# Altium footprint library UCC28180-V04.PcbLib: 54 footprints (part 3 of 4)
Each footprint in its own frame and in the unit in brackets; x right, y up, seen from the top. Pads: shape width x height; smd on the part's side, far side on the other; paste and mask are expansions set on the pad; w line width, h text height; cw(c..) or ccw(c..) is an arc to the next point about the centre after c.
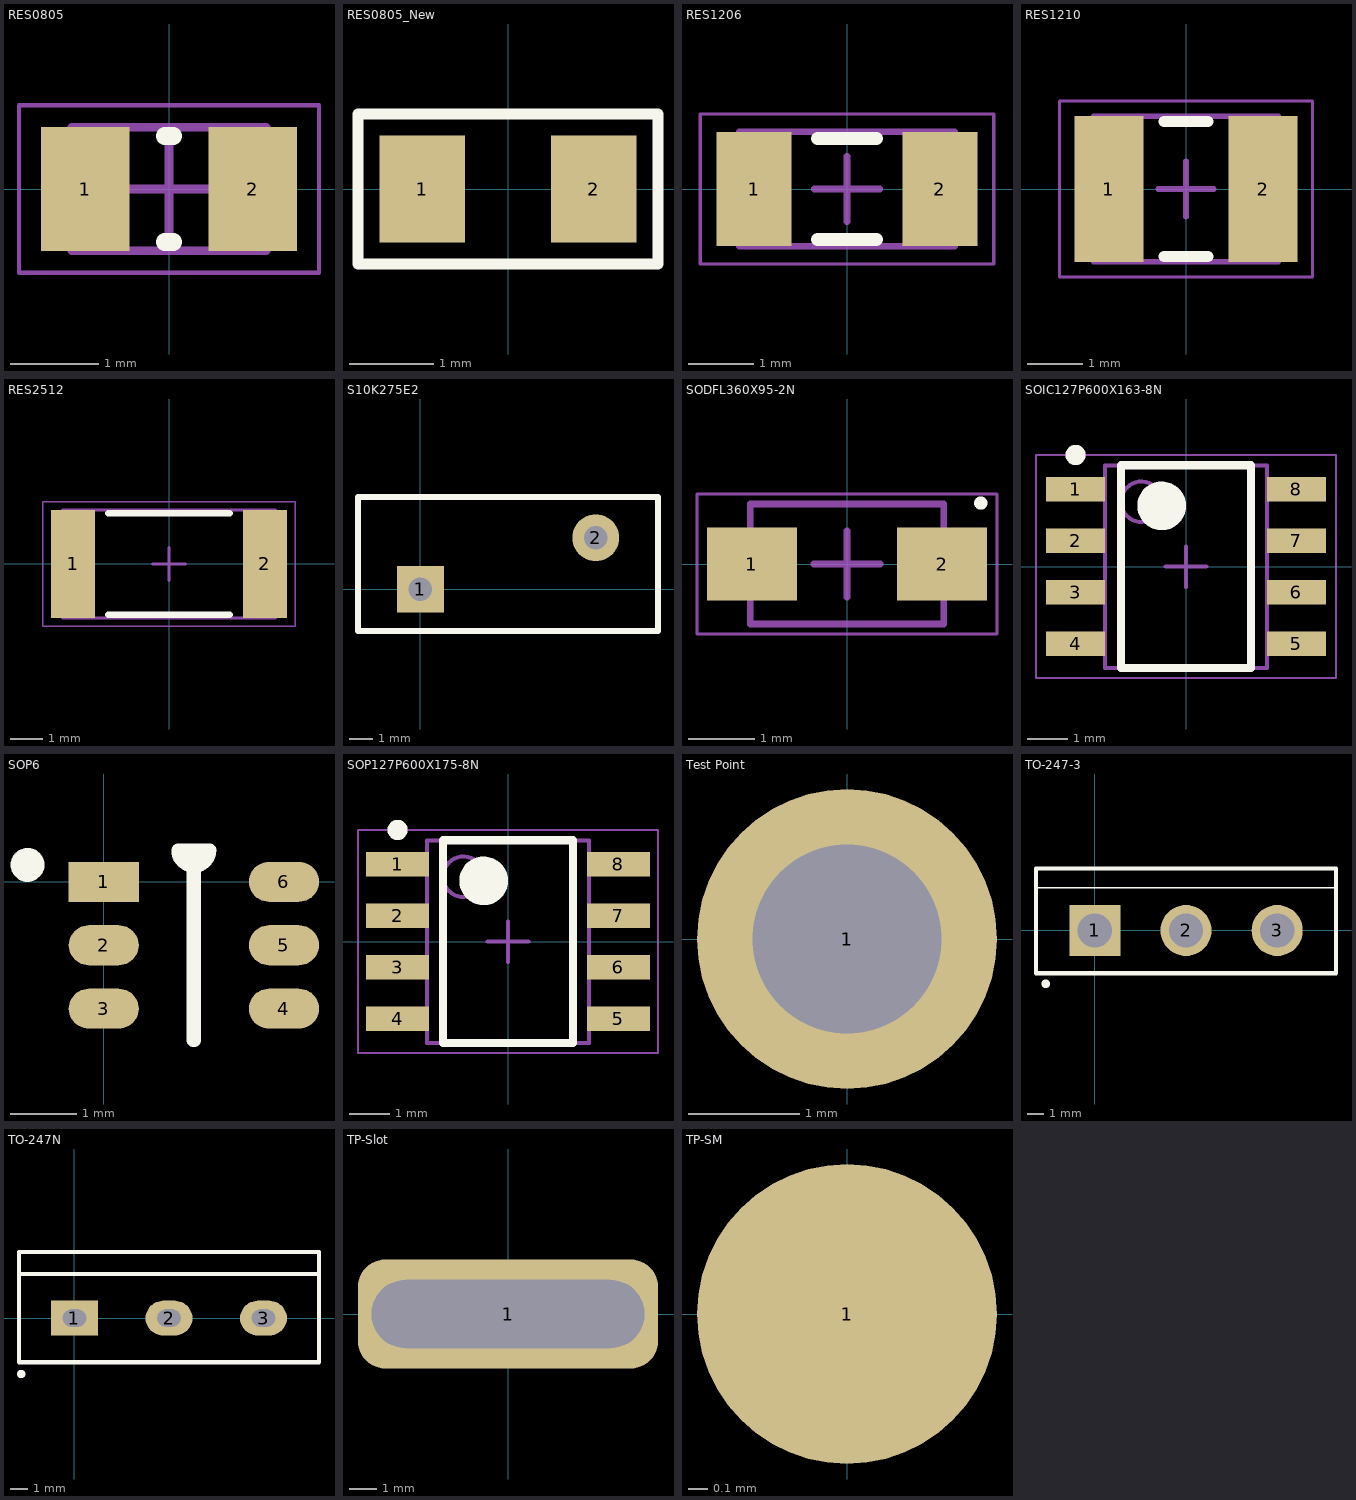
[diagram p2: the footprints below, top view; thin cyan lines are the x and y axes]

## RES0805 [mm]
height 0.5
pads (2):
  rect 1x1.4 smd: 1(-0.95,0) 2(0.95,0)
Top Overlay:
  lines w0.2: -0.05,-0.6 0.05,-0.6 ; -0.05,0.6 0.05,0.6
Mechanical 13:
  lines w0.1: -1.1,-0.7 1.1,-0.7 1.1,0.7 -1.1,0.7 -1.1,-0.7
Mechanical 15:
  lines w0.05: -1.7,-0.95 1.7,-0.95 1.7,0.95 -1.7,0.95 -1.7,-0.95
  lines w0.1: -0.5,0 0.5,0 ; 0,-0.5 0,0.5
3D body: height 0.5, standoff 0, extent 0.75,-0.7 1.1,0.7
3D body: height 0.5, standoff 0, extent -1.1,-0.7 -0.75,0.7
3D body: height 0.5, standoff 0, extent -0.75,-0.7 0.75,0.7

## RES0805_New [mil] "SMD_Resistor"
pads (2):
  rect 40x50 smd: 1(-40,0) 2(40,0)
Top Overlay:
  lines w5: -70,-35 70,-35 70,35 -70,35 -70,-35
3D body: height 27, standoff 26, extent 15,-15.5 22.5,-0.5
3D body: height 27, standoff 26, extent 5,-15.5 12.5,-0.5
3D body: height 27, standoff 26, extent -25,-15.5 -17.5,-0.5
3D body: height 27, standoff 26, extent -5,-15.5 2.5,-0.5
3D body: height 27, standoff 26, extent -0.5,2 7,17
3D body: height 27, standoff 26, extent -10.5,2 -3,17
3D body: height 27, standoff 26, extent -20.5,2 -13,17
3D body: height 27, standoff 26, extent -30.5,2 -23,17
3D body: height 27, standoff 26, extent -15,-15.5 -7.5,-0.5
3D body: height 26, standoff 0, extent 24,-25 40,25
3D body: height 26, standoff 25, extent -25,-22 24,22
3D body: height 26, standoff 0, extent -41,-25 -25,25
3D body: height 25, standoff 0, extent -40,-24 39,24
3D body: height 27, standoff 26, extent 9.5,2 17,17
3D body: height 27, standoff 26, extent 19.5,2 27,17

## RES1206 [mm]
height 0.5
pads (2):
  rect 1.15x1.75 smd: 1(-1.425,0) 2(1.425,0)
Top Overlay:
  lines w0.2: -0.45,-0.775 0.45,-0.775 ; -0.45,0.775 0.45,0.775
Mechanical 13:
  lines w0.1: -1.65,-0.875 -1.65,0.875 1.65,0.875 1.65,-0.875 -1.65,-0.875
Mechanical 15:
  lines w0.05: -2.25,-1.15 -2.25,1.15 2.25,1.15 2.25,-1.15 -2.25,-1.15
  lines w0.1: -0.5,0 0.5,0 ; 0,-0.5 0,0.5
3D body: height 0.5, standoff 0, extent -1.2,-0.875 1.2,0.875
3D body: height 0.5, standoff 0, extent -1.65,-0.875 -1.2,0.875
3D body: height 0.5, standoff 0, extent 1.2,-0.875 1.65,0.875

## RES1210 [mm] "Chip Resistor"
height 2
pads (2):
  rect 1.25x2.65 smd: 1(-1.4,0) 2(1.4,0)
Top Overlay:
  lines w0.2: -0.4,-1.225 0.4,-1.225 ; -0.4,1.225 0.4,1.225
Mechanical 13:
  lines w0.1: -1.675,-1.32 -1.675,1.32 1.675,1.32 1.675,-1.32 -1.675,-1.32
Mechanical 15:
  lines w0.05: -2.3,-1.6 -2.3,1.6 2.3,1.6 2.3,-1.6 -2.3,-1.6
  lines w0.1: -0.5,0 0.5,0 ; 0,-0.5 0,0.5
3D body: height 2, standoff 0, extent -1.175,-1.32 1.175,1.32
3D body: height 2, standoff 0, extent -1.675,-1.32 -1.175,1.32
3D body: height 2, standoff 0, extent 1.175,-1.32 1.675,1.32

## RES2512 [mm]
height 0.7
pads (2):
  rect 1.35x3.3 smd: 1(-2.925,0) 2(2.925,0)
Top Overlay:
  lines w0.2: -1.85,-1.55 1.85,-1.55 ; -1.85,1.55 1.85,1.55
Mechanical 13:
  lines w0.1: -3.25,-1.65 3.25,-1.65 3.25,1.65 -3.25,1.65 -3.25,-1.65
Mechanical 15:
  lines w0.05: -3.85,-1.9 3.85,-1.9 3.85,1.9 -3.85,1.9 -3.85,-1.9
  lines w0.1: -0.5,0 0.5,0 ; 0,-0.5 0,0.5
3D body: height 0.7, standoff 0, extent 2.65,-1.65 3.25,1.65
3D body: height 0.7, standoff 0, extent -3.25,-1.65 -2.65,1.65
3D body: height 0.7, standoff 0, extent -2.65,-1.65 2.65,1.65

## S10K275E2 [mm] "Varistor"
pads (2):
  rect 2x2 hole 1: 1(0,0)
  round 2 hole 1: 2(7.5,2.2)
Top Overlay:
  lines w0.254: -2.667,-1.778 10.16,-1.778 10.16,3.937 -2.667,3.937 -2.667,-1.778

## SOD-123FL [mm] "Schottky Diode"

## SODFL360X95-2N [mm] "SODFL, 2-Leads, Body 1.65x3.60mm, IPC Medium Density"
height 0.95
pads (2):
  rect 1.35x1.1 smd: 1(-1.425,0) 2(1.425,0)
Top Overlay:
  lines w0.1: 2.057,0.914 cw(c2.007,0.914) 2.057,0.915
Mechanical 13:
  lines w0.1: -1.45,-0.9 -1.45,0.9 1.45,0.9 1.45,-0.9 -1.45,-0.9
Mechanical 15:
  lines w0.05: -2.25,-1.05 -2.25,1.05 2.25,1.05 2.25,-1.05 -2.25,-1.05
  lines w0.1: -0.5,0 0.5,0 ; 0,-0.5 0,0.5
3D body: height 0.95, standoff 0, extent -1.45,-0.9 1.45,0.9

## SOIC127P600X163-8N [mm] "SOIC, 8-Leads, Body 4.90x3.90mm, Pitch 1.27mm, IPC Medium Density"
height 1.63
pads (8):
  rect 1.45x0.6 smd: 1(-2.725,1.905) 2(-2.725,0.635) 3(-2.725,-0.635) 4(-2.725,-1.905) 5(2.725,-1.905) 6(2.725,-0.635) 7(2.725,0.635) 8(2.725,1.905)
Top Overlay:
  circle w0.25: c-2.725,2.755 r0.125
  circle w0.6: c-0.6,1.5 r0.3
  lines w0.2: -1.6,-2.5 -1.6,2.5 1.6,2.5 1.6,-2.5 -1.6,-2.5
Mechanical 13:
  circle w0.1: c-1.1,1.6 r0.5
  lines w0.1: -2,-2.5 -2,2.5 2,2.5 2,-2.5 -2,-2.5
Mechanical 15:
  lines w0.05: -3.7,-2.75 -3.7,2.75 3.7,2.75 3.7,-2.75 -3.7,-2.75
  lines w0.1: -0.5,0 0.5,0 ; 0,-0.5 0,0.5
3D body "SOIC127P600X163-8N.step": height 1.63, standoff 0, extent -2.997,-2.5 2.997,2.5

## SOP6 [mm]
pads (6):
  rect 1.05x0.6 smd: 1(0,0)
  oval 1.05x0.6 smd: 2(0,-0.95) 3(0,-1.9) 4(2.7,-1.9) 5(2.7,-0.95) 6(2.7,0)
Top Overlay:
  circle w0.254: c-1.143,0.254 r0.127
  lines w0.2: 1.112,0.475 ccw(c1.35,0.475) 1.587,0.475 1.34,0.475 1.34,-2.375 1.36,-2.375 1.36,0.475 1.112,0.475
3D body: height 2, standoff 0, extent 0.673,-2.337 2.019,0.457

## SOP127P600X175-8N [mm] "SOP, 8-Leads, Body 4.90x3.90mm, Pitch 1.27mm, IPC Medium Density"
height 1.75
pads (8):
  rect 1.55x0.6 smd: 1(-2.725,1.905) 2(-2.725,0.635) 3(-2.725,-0.635) 4(-2.725,-1.905) 5(2.725,-1.905) 6(2.725,-0.635) 7(2.725,0.635) 8(2.725,1.905)
Top Overlay:
  circle w0.6: c-0.6,1.5 r0.3
  circle w0.25: c-2.725,2.755 r0.125
  lines w0.2: -1.6,-2.5 1.6,-2.5 1.6,2.5 -1.6,2.5 -1.6,-2.5
Mechanical 13:
  circle w0.1: c-1.1,1.6 r0.5
  lines w0.1: -2,-2.5 2,-2.5 2,2.5 -2,2.5 -2,-2.5
Mechanical 15:
  lines w0.05: -3.7,-2.75 3.7,-2.75 3.7,2.75 -3.7,2.75 -3.7,-2.75
  lines w0.1: -0.5,0 0.5,0 ; 0,-0.5 0,0.5
3D body: height 1.75, standoff 0.25, extent -2,-2.5 2,2.5

## Test Point [mm] "Test Point"
pads (1):
  round 2.7 hole 1.7: 1(0,0)
3D body "keystone-PN5006.STEP": height 5.49, standoff -3.43, extent -1.626,-1.499 1.549,1.676

## TO-247-3 [mm] "Transistor"
pads (3):
  rect 3.04x3.04 hole 2.03: 1(0,0)
  round 3.04 hole 2.03: 2(5.43,0) 3(10.86,0)
Top Overlay:
  circle w0.254: c-2.921,-3.175 r0.127
  lines w0.08: -3.5,2.54 14.36,2.54
  lines w0.254: -3.5,2.311 -3.5,3.683 -3.302,3.683 14.36,3.683 14.36,2.311 ; -3.5,2.54 -3.5,-2.54 14.36,-2.54 14.36,2.54

## TO-247N [mm] "Transistor"
pads (3):
  rect 2.7x2 hole 1 slot 1.35 at 0 deg: 1(0,0)
  oval 2.7x2 hole 1 slot 1.35 at 0 deg: 2(5.45,0) 3(10.9,0)
Top Overlay:
  circle w0.254: c-3.073,-3.226 r0.114
  lines w0.254: -3.2,2.54 -3.2,3.785 -3.175,3.81 14.097,3.81 14.1,3.807 14.1,2.54 ; -3.2,2.54 14.1,2.54 ; -3.2,2.54 -3.2,-2.54 14.1,-2.54 14.1,2.54
3D body "TO-247H.STEP": height 5.01, standoff -6.89, extent -2.263,-25.095 13.236,0.305

## TP-Slot [mm] "Special Test point-Slot"
pads (1):
  rrect50% 11x4 hole 2.5 slot 10 at 0 deg: 1(0,0)

## TP-SM [mil] "Special Testpoint-Surface Mount"
pads (1):
  round 60 all layers, no hole: 1(0,0)